# Altium footprint library DIODE_SOD-123-2.PcbLib: 1 footprints
Each footprint in its own frame and in the unit in brackets; x right, y up, seen from the top. Pads: shape width x height; smd on the part's side, far side on the other; paste and mask are expansions set on the pad; w line width, h text height; cw(c..) or ccw(c..) is an arc to the next point about the centre after c.
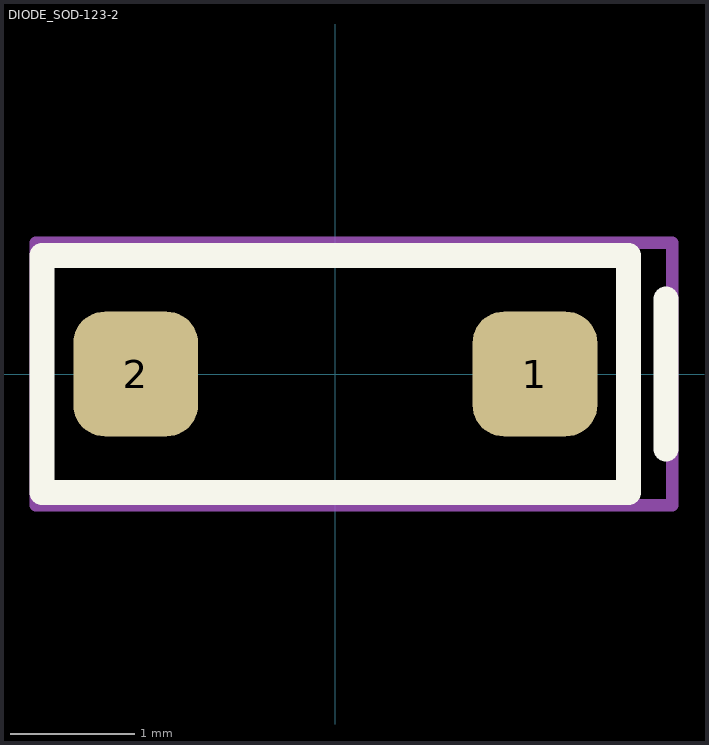
[diagram p0: the footprint, top view; thin cyan lines are the x and y axes]

## DIODE_SOD-123-2 [mm]
pads (2):
  rrect50% 1x1 smd: 1(1.6,0) 2(-1.6,0)
Top Overlay:
  lines w0.2: 2.65,-0.6 2.65,0.6 ; -2.35,-0.95 -2.35,0.95 2.35,0.95 2.35,-0.95 -2.35,-0.95
Top Courtyard:
  lines w0.1: -2.4,-1.05 -2.4,1.05 2.7,1.05 2.7,-1.05 -2.4,-1.05
3D body "SZMMSZ9V1T1G.STEP": height 1.35, standoff 0, extent -1.842,-0.8 1.841,0.8